# Altium footprint library Maxim Integrated.PcbLib: 5 footprints
Each footprint in its own frame and in the unit in brackets; x right, y up, seen from the top. Pads: shape width x height; smd on the part's side, far side on the other; paste and mask are expansions set on the pad; w line width, h text height; cw(c..) or ccw(c..) is an arc to the next point about the centre after c.
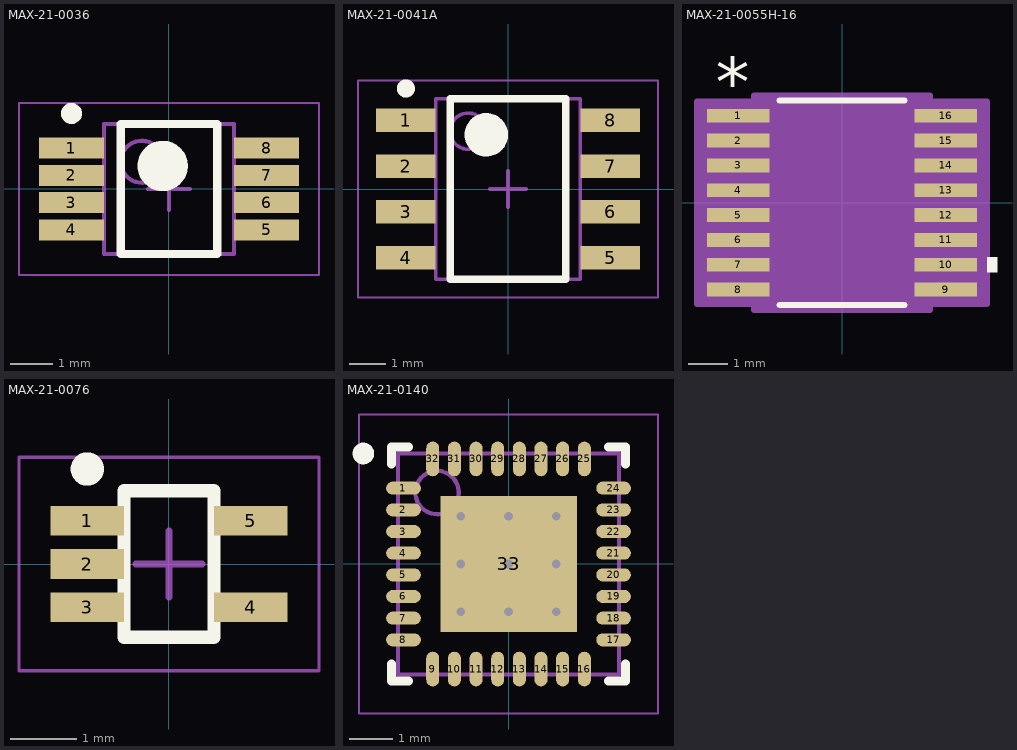
[diagram p0: the footprints below, top view; thin cyan lines are the x and y axes]

## MAX-21-0036 [mm] "TSOP, 8-Leads, Body 3.00x3.00mm, Pitch 0.65mm, IPC Low Density"
height 1.1
pads (8):
  rect 1.55x0.498 smd: 1(-2.325,0.975) 2(-2.325,0.325) 3(-2.325,-0.325) 4(-2.325,-0.975) 5(2.325,-0.975) 6(2.325,-0.325) 7(2.325,0.325) 8(2.325,0.975)
Top Overlay:
  circle w0.25: c-2.325,1.8 r0.125
  circle w0.6: c-0.15,0.55 r0.3
  lines w0.2: -1.15,-1.55 -1.15,1.55 1.15,1.55 1.15,-1.55 -1.15,-1.55
Mechanical 13:
  circle w0.1: c-0.65,0.65 r0.5
  lines w0.1: -1.55,-1.55 -1.55,1.55 1.55,1.55 1.55,-1.55 -1.55,-1.55
Mechanical 15:
  lines w0.05: -3.575,-2.05 -3.575,2.05 3.575,2.05 3.575,-2.05 -3.575,-2.05
  lines w0.1: -0.5,0 0.5,0 ; 0,-0.5 0,0.5
3D body "MAX-21-0036.step": height 1.1, standoff 0, extent -2.452,-1.55 2.452,1.55

## MAX-21-0041A [mm] "SOIC, 8-Leads, Body 4.90x3.90mm, Pitch 1.27mm, IPC Low Density"
height 1.75
pads (8):
  rect 1.65x0.65 smd: 1(-2.825,1.905) 2(-2.825,0.635) 3(-2.825,-0.635) 4(-2.825,-1.905) 5(2.825,-1.905) 6(2.825,-0.635) 7(2.825,0.635) 8(2.825,1.905)
Top Overlay:
  circle w0.6: c-0.6,1.5 r0.3
  circle w0.25: c-2.825,2.78 r0.125
  lines w0.2: -1.6,-2.5 1.6,-2.5 1.6,2.5 -1.6,2.5 -1.6,-2.5
Mechanical 13:
  circle w0.1: c-1.1,1.6 r0.5
  lines w0.1: -2,-2.5 2,-2.5 2,2.5 -2,2.5 -2,-2.5
Mechanical 15:
  lines w0.05: -4.15,-3 4.15,-3 4.15,3 -4.15,3 -4.15,-3
  lines w0.1: -0.5,0 0.5,0 ; 0,-0.5 0,0.5
3D body "MAX-21-0041A.step": height 1.75, standoff 0, extent -3,-2.5 3,2.5

## MAX-21-0055H-16 [mil] "SENSOR TEMPERATURE SMBUS 16QSOP"
height 43.31
pads (16):
  rect 63x14 smd: 1(-104.5,87.5) 2(-104.5,62.5) 3(-104.5,37.5) 4(-104.5,12.5) 5(-104.5,-12.5) 6(-104.5,-37.5) 7(-104.5,-62.5) 8(-104.5,-87.5) 9(104.5,-87.5) 10(104.5,-62.5) 11(104.5,-37.5) 12(104.5,-12.5) 13(104.5,12.5) 14(104.5,37.5) 15(104.5,62.5) 16(104.5,87.5)
Top Overlay:
  region: 146,-55 156,-55 156,-70 146,-70
  lines w6: -63.03,-103 63.03,-103 ; -63.03,103 63.03,103
  text "*" at -127,96.5 h50
Mechanical 13:
  lines w0: -12,98 ccw(c0,98) 12,98
  lines w1: -122,-93.5 -122,-81.5 -78.5,-81.5 -78.5,-93.5 -122,-93.5 ; -122,-68.5 -122,-56.5 -78.5,-56.5 -78.5,-68.5 -122,-68.5 ; -122,-43.5 -122,-31.5 -78.5,-31.5 -78.5,-43.5 -122,-43.5 ; -122,-18.5 -122,-6.5 -78.5,-6.5 -78.5,-18.5 -122,-18.5 ; -122,6.5 -122,18.5 -78.5,18.5 -78.5,6.5 -122,6.5 ; -122,31.5 -122,43.5 -78.5,43.5 -78.5,31.5 -122,31.5 ; -122,56.5 -122,68.5 -78.5,68.5 -78.5,56.5 -122,56.5 ; -122,81.5 -122,93.5 -78.5,93.5 -78.5,81.5 -122,81.5 ; -78.5,-98 78.5,-98 78.5,98 -78.5,98 -78.5,-98 ; 78.5,-93.5 78.5,-81.5 122,-81.5 122,-93.5 78.5,-93.5 ; 78.5,-68.5 78.5,-56.5 122,-56.5 122,-68.5 78.5,-68.5 ; 78.5,-43.5 78.5,-31.5 122,-31.5 122,-43.5 78.5,-43.5 ; 78.5,-18.5 78.5,-6.5 122,-6.5 122,-18.5 78.5,-18.5 ; 78.5,6.5 78.5,18.5 122,18.5 122,6.5 78.5,6.5 ; 78.5,31.5 78.5,43.5 122,43.5 122,31.5 78.5,31.5 ; 78.5,56.5 78.5,68.5 122,68.5 122,56.5 78.5,56.5 ; 78.5,81.5 78.5,93.5 122,93.5 122,81.5 78.5,81.5
  text "*" at -76,45 h50
Mechanical 15:
  region: -88.5,-102 -146,-102 -146,102 -88.5,102 -88.5,108 88.5,108 88.5,102 146,102 146,-102 88.5,-102 88.5,-108 -88.5,-108
  lines w6: -146,-102 -146,102 -88.5,102 -88.5,108 88.5,108 88.5,102 146,102 146,-102 88.5,-102 88.5,-108 -88.5,-108 -88.5,-102 -146,-102
3D body: height 62.99, standoff 0, extent -92.5,-110 90.48,112.5

## MAX-21-0076 [mm] "SOT23, 5-Leads, Body 2.00x2.10mm, Pitch 0.65mm, IPC Low Density"
height 1.1
pads (5):
  rect 1.1x0.446 smd: 1(-1.225,0.65) 2(-1.225,0) 3(-1.225,-0.65) 4(1.225,-0.65) 5(1.225,0.65)
Top Overlay:
  circle w0.25: c-1.225,1.425 r0.125
  lines w0.2: -0.675,-1.1 -0.675,1.1 0.675,1.1 0.675,-1.1 -0.675,-1.1
Mechanical 13:
  lines w0.1: -0.675,-1.1 0.675,-1.1 0.675,1.1 -0.675,1.1 -0.675,-1.1
Mechanical 15:
  lines w0.05: -2.25,-1.6 2.25,-1.6 2.25,1.6 -2.25,1.6 -2.25,-1.6
  lines w0.1: -0.5,0 0.5,0 ; 0,-0.5 0,0.5
3D body: height 1.1, standoff 0, extent -0.675,-1.1 0.675,1.1

## MAX-21-0140 [mm] "QFN, 32-Leads, Body 5.00x5.00mm, Pitch 0.50mm, Thermal Pad 3.15x3.15mm, IPC Low Density"
height 0.8
pads (33):
  oval 0.8x0.3 smd: 1(-2.425,1.75) 2(-2.425,1.25) 3(-2.425,0.75) 4(-2.425,0.25) 5(-2.425,-0.25) 6(-2.425,-0.75) 7(-2.425,-1.25) 8(-2.425,-1.75) 17(2.425,-1.75) 18(2.425,-1.25) 19(2.425,-0.75) 20(2.425,-0.25) 21(2.425,0.25) 22(2.425,0.75) 23(2.425,1.25) 24(2.425,1.75)
  oval 0.3x0.8 smd: 9(-1.75,-2.425) 10(-1.25,-2.425) 11(-0.75,-2.425) 12(-0.25,-2.425) 13(0.25,-2.425) 14(0.75,-2.425) 15(1.25,-2.425) 16(1.75,-2.425) 25(1.75,2.425) 26(1.25,2.425) 27(0.75,2.425) 28(0.25,2.425) 29(-0.25,2.425) 30(-0.75,2.425) 31(-1.25,2.425) 32(-1.75,2.425)
  rect 3.15x3.15 smd: 33(0,0)
via -1.1,1.1 diameter 0.5 hole 0.2
via 0,1.1 diameter 0.5 hole 0.2
via 1.1,1.1 diameter 0.5 hole 0.2
via -1.1,0 diameter 0.5 hole 0.2
via 0,0 diameter 0.5 hole 0.2
via 1.1,0 diameter 0.5 hole 0.2
via -1.1,-1.1 diameter 0.5 hole 0.2
via 0,-1.1 diameter 0.5 hole 0.2
via 1.1,-1.1 diameter 0.5 hole 0.2
Top Overlay:
  circle w0.25: c-3.35,2.55 r0.125
  lines w0.2: -2.7,-2.3 -2.7,-2.7 -2.3,-2.7 ; -2.7,2.3 -2.7,2.7 -2.3,2.7 ; 2.3,-2.7 2.7,-2.7 2.7,-2.3 ; 2.3,2.7 2.7,2.7 2.7,2.3
Top Assembly:
  circle w0.1: c-1.65,1.65 r0.5
  lines w0.1: -2.55,-2.55 -2.55,2.55 2.55,2.55 2.55,-2.55 -2.55,-2.55
Top Courtyard:
  lines w0.05: -3.45,-3.45 -3.45,3.45 3.45,3.45 3.45,-3.45 -3.45,-3.45
  lines w0.1: -0.5,0 0.5,0 ; 0,-0.5 0,0.5
3D body "MAX-21-0140.step": height 0.8, standoff 0, extent -2.551,-2.551 2.551,2.551